# Altium integrated library IntelP30.IntLib: 1 symbol
Pins are listed as number, name and electrical type; pins without a type are passive.

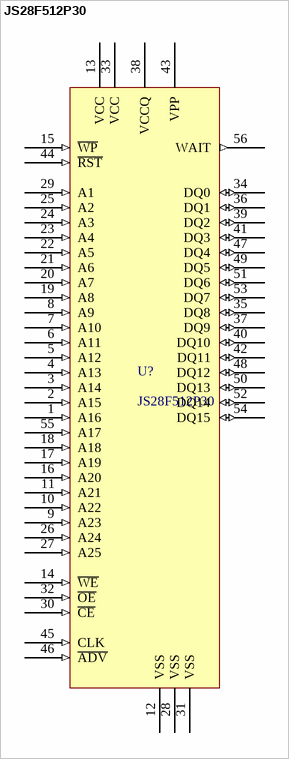
[diagram p0: symbol JS28F512P30]

## JS28F512P30
designator U?
Intel StrataFLASH
footprint TSOP56
signal-integrity model 33256tsop (Model Description)
pins: 1 A16 (in), 2 A15 (in), 3 A14 (in), 4 A13 (in), 5 A12 (in), 6 A11 (in), 7 A10 (in), 8 A9 (in), 9 A23 (in), 10 A22 (in), 11 A21 (in), 12 VSS (power), 13 VCC (power), 14 ~{WE} (in), 15 ~{WP} (in), 16 A20 (in), 17 A19 (in), 18 A18 (in), 19 A8 (in), 20 A7 (in), 21 A6 (in), 22 A5 (in), 23 A4 (in), 24 A3 (in), 25 A2 (in), 26 A24 (in), 27 A25 (in), 28 VSS (power), 29 A1 (in), 30 ~{CE} (in), 31 VSS (power), 32 ~{OE} (in), 33 VCC (power), 34 DQ0 (io), 35 DQ8 (io), 36 DQ1 (io), 37 DQ9 (io), 38 VCCQ (power), 39 DQ2 (io), 40 DQ10 (io), 41 DQ3 (io), 42 DQ11 (io), 43 VPP (power), 44 ~{RST} (in), 45 CLK (in), 46 ~{ADV} (in), 47 DQ4 (io), 48 DQ12 (io), 49 DQ5 (io), 50 DQ13 (io), 51 DQ6 (io), 52 DQ14 (io), 53 DQ7 (io), 54 DQ15 (io), 55 A17 (in), 56 WAIT (out)